# Altium schematic symbol library SIM300D.SchLib: 1 symbol
Pins are listed as number, name and electrical type; pins without a type are passive.

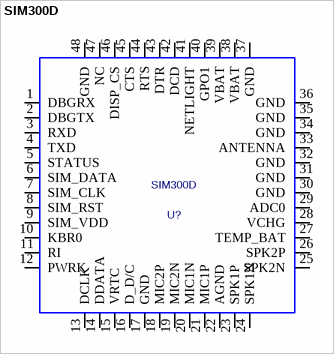
[diagram p0: symbol SIM300D]

## SIM300D
designator U?
Value: *
footprint SIM300D
pins: 1 DBGRX, 2 DBGTX, 3 RXD, 4 TXD, 5 STATUS, 6 SIM_DATA, 7 SIM_CLK, 8 SIM_RST, 9 SIM_VDD, 10 KBR0, 11 RI, 12 PWRK, 13 DCLK, 14 DDATA, 15 VRTC, 16 D_D/C, 17 GND, 18 MIC2P, 19 MIC2N, 20 MIC1N, 21 MIC1P, 22 AGND, 23 SPK1P, 24 SPK1N, 25 SPK2N, 26 SPK2P, 27 TEMP_BAT, 28 VCHG, 29 ADC0, 30 GND, 31 GND, 32 GND, 33 ANTENNA, 34 GND, 35 GND, 36 GND, 37 GND, 38 VBAT, 39 VBAT, 40 GPO1, 41 NETLIGHT, 42 DCD, 43 DTR, 44 RTS, 45 CTS, 46 DISP_CS, 47 NC, 48 GND